# Altium footprint library WE-FCLP.PcbLib: 1 footprints
Each footprint in its own frame and in the unit in brackets; x right, y up, seen from the top. Pads: shape width x height; smd on the part's side, far side on the other; paste and mask are expansions set on the pad; w line width, h text height; cw(c..) or ccw(c..) is an arc to the next point about the centre after c.
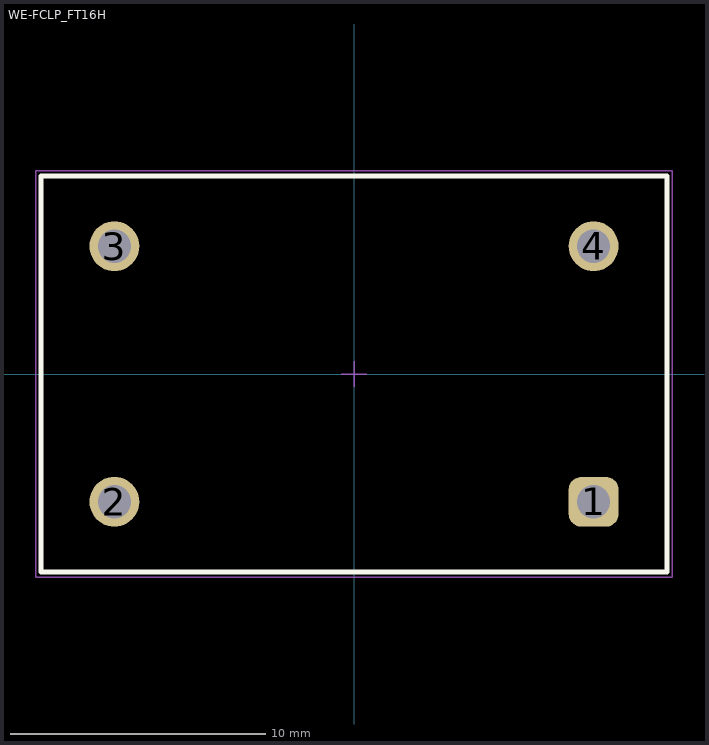
[diagram p0: the footprint, top view; thin cyan lines are the x and y axes]

## WE-FCLP_FT16H [mm] "Common Mode Choke, THT, body 24.5x15.5mm"
height 14.5
pads (4):
  rrect50% 1.95x1.95 hole 1.3: 1(9.375,-5)
  round 1.95 hole 1.3: 2(-9.375,-5) 3(-9.375,5) 4(9.375,5)
Top Overlay:
  lines w0.2: -12.25,-7.75 12.25,-7.75 12.25,7.75 -12.25,7.75 -12.25,-7.75
Top Designator:
  text ".Designator" at -7.498,-0.5 h1.5
Top Component Outline:
  lines w0.1: -12.25,-7.75 12.25,-7.75 12.25,7.75 -12.25,7.75 -12.25,-7.75
Top 3D Body:
  lines w0.1: -12.25,-7.75 12.25,-7.75 12.25,7.75 -12.25,7.75 -12.25,-7.75
Top Courtyard:
  lines w0.05: -0.5,0 0.5,0 ; 0,-0.5 0,0.5 ; -12.45,-7.95 12.45,-7.95 12.45,7.95 -12.45,7.95 -12.45,-7.95
3D body "WE-FCLP_744869161xxx.stp": height 13.65, standoff -3.4, extent -12.2,-7.15 12.2,7.15